# Altium footprint library PlanarCurrentTransformer.PcbLib: 1 footprints
Each footprint in its own frame and in the unit in brackets; x right, y up, seen from the top. Pads: shape width x height; smd on the part's side, far side on the other; paste and mask are expansions set on the pad; w line width, h text height; cw(c..) or ccw(c..) is an arc to the next point about the centre after c.
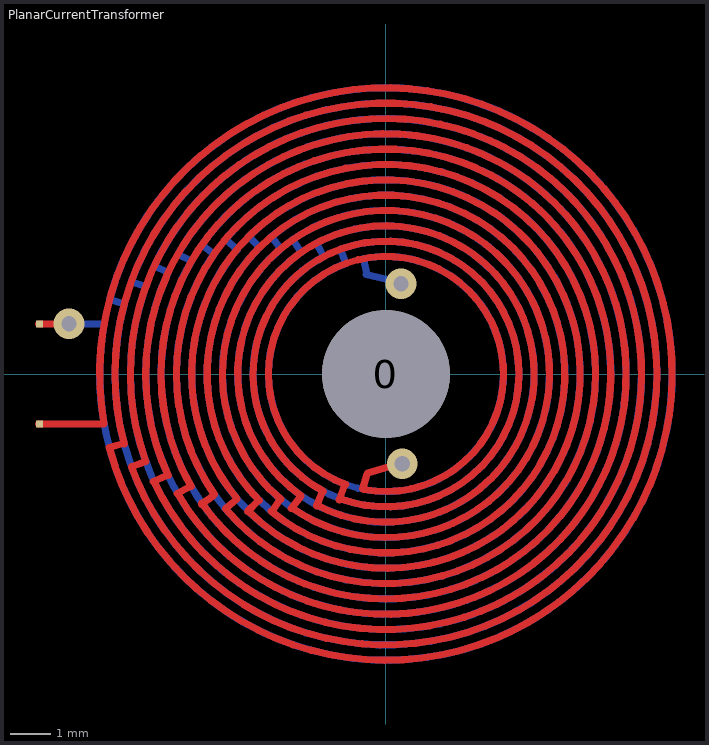
[diagram p0: the footprint, top view; thin cyan lines are the x and y axes]

## PlanarCurrentTransformer [mil] "100:1 current sense transformer for four layer boards"
pads (3):
  round 125 hole 125: 0(0,0)
  rect 7x7 smd paste+0 mask+0: 1(-339,-49) 2(-339,49)
via 16,-87.82 diameter 30 hole 15
via 14.67,88.34 diameter 30 hole 15
via -310,49 diameter 30 hole 15
Top Layer:
  lines w7: -340,-49 -310,-49 ; -340,49 -310,49 ; -311,-49 -276,-49 ; -275.75,-48.62 cw(c0,0) -270.46,-72.47 ; -270.72,-71.93 -256.29,-67.74 ; -255.97,-68.59 cw(c0,0) -249.02,-90.64 -234.92,-85.5 cw(c0,0) -226.58,-105.65 ; -227.74,-105.24 -213.99,-99.17 ; -212.98,-99.32 cw(c0,0) -203.52,-117.5 ; -204.33,-116.94 -190.92,-109.93 ; -190.53,-110 cw(c0,0) -180.21,-126.19 ; -180.32,-127.35 -168.53,-118.81 ; -167.93,-117.58 cw(c0,0) -157.04,-131.77 ; -156.48,-131.45 -145.97,-122.3 ; -145.55,-122.13 cw(c0,0) -134.35,-134.35 ; -135.21,-134.34 -125.04,-124.26 ; -123.74,-123.74 cw(c0,0) -112.49,-134.06 ; -110.86,-134 -104.2,-123.06 ; -102.85,-122.57 cw(c0,0) -91.77,-131.06 ; -92.57,-131.6 -83.09,-119.63 ; -83.17,-118.78 cw(c0,0) -68.07,-128.03 ; -67.97,-129.03 -62.33,-115.27 ; -61.03,-114.78 cw(c0,0) -44.46,-122.16 ; -45.67,-123.04 -40.38,-108.34 ; -39.33,-108.06 cw(c0,0) -21.94,-112.89 ; -22.86,-112.61 -18.51,-98.26 ; -17.91,-96.97 15.66,-86.88
Power:
  lines w7: 16,-87.82 50.43,-85.93 59.32,-98.66 ; 59.23,-98.57 cw(c0,0) 73.92,-88.1 ; 73.59,-88.15 83.07,-99.59 ; 83.56,-99.59 cw(c0,0) 96.61,-86.99 ; 96.65,-87.2 107.68,-97.02 ; 107.76,-97.02 cw(c0,0) 118.78,-83.17 ; 118.69,-83.44 131.26,-91.63 ; 131.06,-91.77 cw(c0,0) 138.56,-80 ; 138.86,-80.35 151.08,-87.61 ; 151.55,-87.5 cw(c0,0) 158.6,-73.96 ; 157.99,-74.45 171.75,-80.09 ; 172.2,-80.3 cw(c0,0) 178.54,-64.98 ; 179.26,-65.65 192.34,-69.4 ; 192.64,-70.11 cw(c0,0) 198.01,-53.06 ; 198.23,-53.42 212.24,-56.84 ; 212.5,-56.94 cw(c0,0) 216.66,-38.2 ; 217.1,-38.04 230.77,-40.51 ; 231.43,-40.81 cw(c0,0) 234.11,-20.48 ; 233.42,-21.46 248.62,-22.31 ; 249.05,-21.79 cw(c0,0) 250,0 ; 250.24,-0.44 265.45,-1.29 ; 264.16,22.72 278.68,23.75 ; 264.33,22.16 ccw(c0.34,-0.94) 265.34,-0.94 ; 275.75,48.62 ccw(c0,0) 278.93,24.4
GND:
  lines w7: 14.33,89.28 52.09,84.94 ; 51.75,85.88 59.01,98.1 ; 59.23,98.57 ccw(c0,0) 73.92,88.1 ; 74.47,87.76 83.01,99.39 ; 83.56,99.59 ccw(c0,0) 96.61,86.99 ; 96,87.09 107.45,96.57 ; 107.76,97.02 ccw(c0,0) 118.78,83.17 ; 118.9,82.65 130.35,92.14 ; 131.06,91.77 ccw(c0,0) 138.56,80 ; 137.02,79.67 151.02,87.96 ; 151.55,87.5 ccw(c0,0) 158.6,73.96 ; 159.32,73.95 172.13,79.68 ; 172.2,80.3 ccw(c0,0) 178.54,64.98 191.7,69.77 ; 192.64,70.11 ccw(c0,0) 198.01,53.06 ; 199.14,52.26 211.35,56.71 ; 212.5,56.94 ccw(c0,0) 216.66,38.2 ; 216.91,38.51 231.09,40.48 ; 231.43,40.81 ccw(c0,0) 234.11,20.48 ; 234.77,21.6 248.36,22.29 ; 249.05,21.79 ccw(c0,0) 250,0 ; 249.9,0.5 265.11,-0.35 ; 263.83,-23.16 279.04,-24.01 ; 263.99,-23.1 cw(c0,0) 265,0 ; 275.75,-48.62 cw(c0,0) 278.93,-24.4
Bottom Layer:
  lines w7: -309,49 -277,49 ; -275.75,48.62 ccw(c0,0) -270.46,72.47 ; -270.25,72.97 -255.9,68.61 ; -255.97,68.59 ccw(c0,0) -249.02,90.64 ; -248.9,90.32 -235.49,85.62 ; -234.92,85.51 ccw(c0,0) -226.58,105.65 ; -226.86,105.79 -212.76,99.21 ; -212.98,99.32 ccw(c0,0) -203.52,117.5 ; -203.12,116.56 -190.3,110.58 ; -190.53,110 ccw(c0,0) -180.21,126.19 ; -179.96,126.05 -168.34,117.51 ; -167.93,117.58 ccw(c0,0) -157.04,131.77 ; -156.39,131.44 -145.36,121.62 ; -145.55,122.13 ccw(c0,0) -134.35,134.35 ; -134,134.27 -123.92,124.1 ; -123.74,123.74 ccw(c0,0) -112.49,134.06 ; -111.53,133.93 -103.33,123.08 ; -102.85,122.57 ccw(c0,0) -91.77,131.06 ; -91.54,131.63 -82.65,118.9 ; -83.17,118.78 ccw(c0,0) -68.07,128.03 ; -67.7,127.54 -61.04,115.06 ; -61.03,114.78 ccw(c0,0) -44.46,122.16 -39.33,108.06 ccw(c0,0) -21.94,112.89 ; -21.73,112.34 -18.48,97.56 ; -19.42,97.22 14.33,89.28